# Altium schematic symbol library TPS546C23RVFR.SchLib: 1 symbol
Pins are listed as number, name and electrical type; pins without a type are passive.

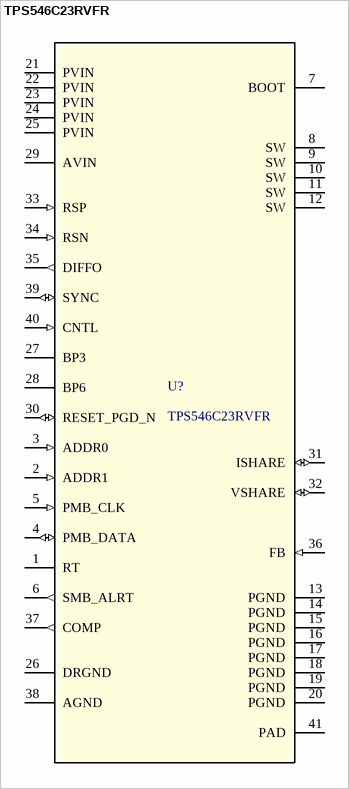
[diagram p0: symbol TPS546C23RVFR]

## TPS546C23RVFR
designator U?
4.5-V to 18-V, stackable 35-A synchronous SWIFTâ„¢ buck converter with PMBus and telemetry 40-LQFN-CLIP -40 to 125; Manufacturer_Name: Texas Instruments; TYPE: TYPE; RefDes: RefDes; Copyright: Copyright (C) 2026 Ultra Librarian. All rights reserved.; Manufacturer_Part_Number: TPS546C23RVFR; Datasheet: https://www.ti.com/lit/gpn/tps546c23
footprint RVF0040A
pins: 1 RT, 2 ADDR1 (in), 3 ADDR0 (in), 4 PMB_DATA (io), 5 PMB_CLK (in), 6 SMB_ALRT (out), 7 BOOT (power), 8 SW (power), 9 SW (power), 10 SW (power), 11 SW (power), 12 SW (power), 13 PGND (power), 14 PGND (power), 15 PGND (power), 16 PGND (power), 17 PGND (power), 18 PGND (power), 19 PGND (power), 20 PGND (power), 21 PVIN (power), 22 PVIN (power), 23 PVIN (power), 24 PVIN (power), 25 PVIN (power), 26 DRGND (power), 27 BP3 (power), 28 BP6 (power), 29 AVIN (power), 30 RESET_PGD_N (io), 31 ISHARE (io), 32 VSHARE (io), 33 RSP (in), 34 RSN (in), 35 DIFFO (out), 36 FB (in), 37 COMP (out), 38 AGND (power), 39 SYNC (io), 40 CNTL (in), 41 PAD (power)